# Altium schematic symbol library TC2030 Connector.SchLib: 1 symbol
Pins are listed as number, name and electrical type; pins without a type are passive.

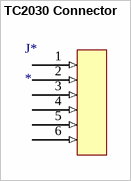
[diagram p0: symbol TC2030 Connector]

## TC2030 Connector
designator J*
footprint TC2030 Connector
pins: 1 (in), 2 (in), 3 (in), 4 (in), 5 (in), 6 (in)